# Altium integrated library pca10000.IntLib: 18 symbols
Pins are listed as number, name and electrical type; pins without a type are passive.

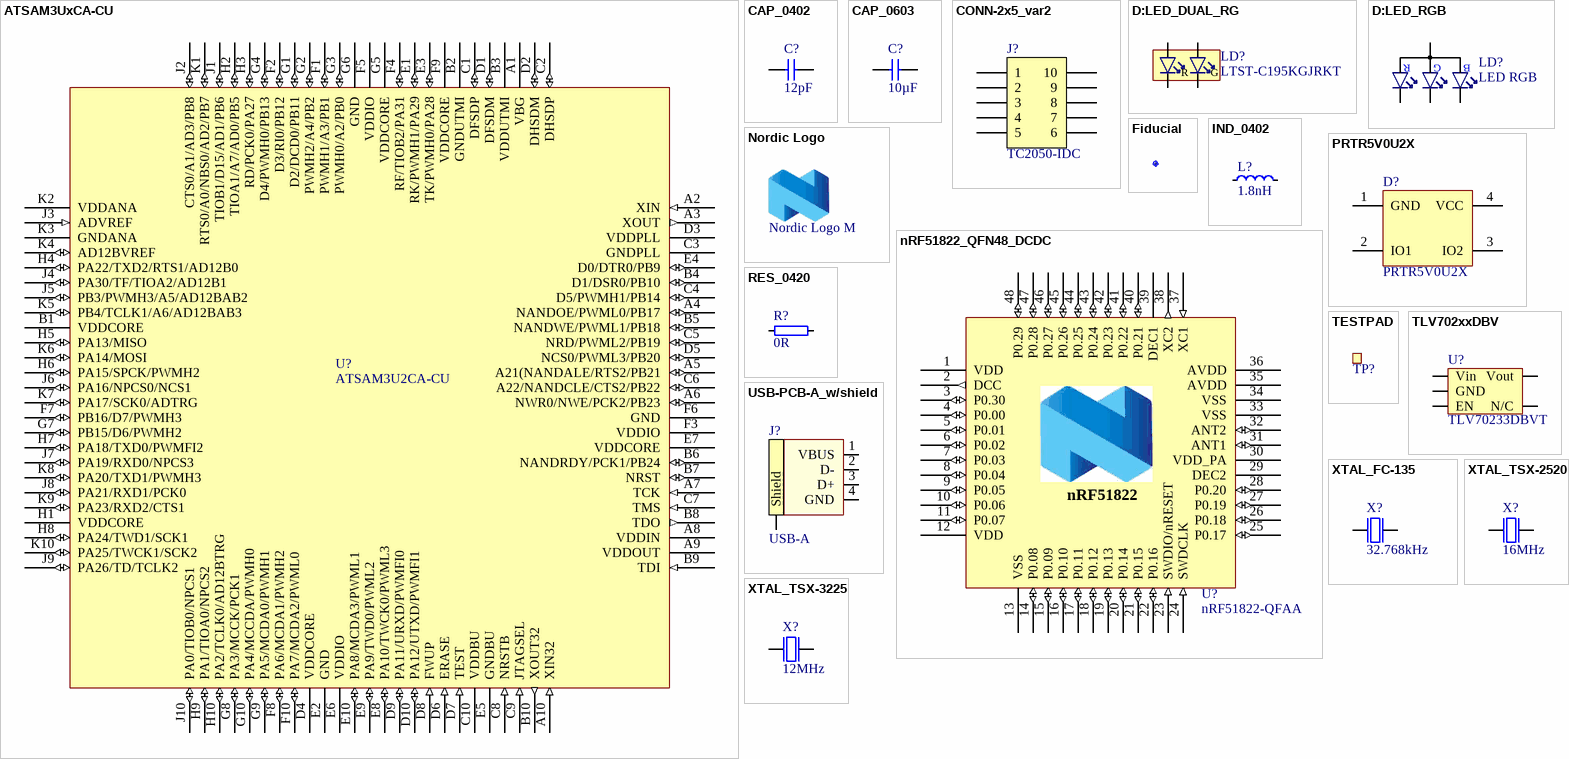
[diagram p0: symbols ATSAM3UxCA-CU to XTAL_TSX-3225]

## ATSAM3UxCA-CU
designator U?, comment ATSAM3U2CA-CU
IC MCU 32bit 128kB flash 100TFBGA; Manufacturer: Atmel; 2nd source part number: 556-ATSAM3U2CA-CU; Artikkelnr Noca: 15019072; Part Number: ATSAM3U2CA-CU; Manufacturer Part Number: ATSAM3U2CA-CU; Datasheet: http://www.atmel.com/Images/6430s.pdf; Footprint: TFBGA100; LatestRevisionDate: 2012-06-01; Pin Count: 100; Publisher: Nordic Semiconductor; Published: 2012-06-01; Value: ATSAM3U2CA-CU; Note: *; Supplier: Digi-Key; Supplier part number: ATSAM3U2CA-CU-ND; 2nd source Supplier: Mouser
footprint BGA100C80P10X10_900X900X110
pins: A1 VBG (power), A2 XIN (in), A3 XOUT (out), A4 NANDOE/PWML0/PB17 (io), A5 A21(NANDALE/RTS2/PB21 (io), A6 NWR0/NWE/PCK2/PB23 (io), A7 TCK (in), A8 VDDIN (power), A9 VDDOUT (power), A10 XIN32 (in), B1 VDDCORE (power), B2 GNDUTMI (power), B3 VDDUTMI (power), B4 D1/DSR0/PB10 (io), B5 NANDWE/PWML1/PB18 (io), B6 NANDRDY/PCK1/PB24 (io), B7 NRST (io), B8 TDO (out), B9 TDI (in), B10 XOUT32 (out), C1 DFSDP (io), C2 DHSDP (io), C3 GNDPLL (power), C4 D5/PWMH1/PB14 (io), C5 NRD/PWML2/PB19 (io), C6 A22/NANDCLE/CTS2/PB22 (io), C7 TMS (in), C8 NRSTB (in), C9 JTAGSEL (in), C10 VDDBU (power), D1 DFSDM (io), D2 DHSDM (io), D3 VDDPLL (power), D4 VDDCORE (power), D5 NCS0/PWML3/PB20 (io), D6 ERASE (in), D7 TEST (in), D8 FWUP (in), D9 PA11/URXD/PWMFI0 (io), D10 PA12/UTXD/PWMFI1 (io), E1 RK/PWMH1/PA29 (io), E2 GND (power), E3 TK/PWMH0/PA28 (io), E4 D0/DTR0/PB9 (io), E5 GNDBU (power), E6 VDDIO (power), E7 VDDCORE (power), E8 PA10/TWCK0/PWML3 (io), E9 PA9/TWD0/PWML2 (io), E10 PA8/MCDA3/PWML1 (io), F1 PWMH1/A3/PB1 (io), F2 D3/RI0/PB12 (io), F3 VDDIO (power), F4 RF/TIOB2/PA31 (io), F5 VDDIO (power), F6 GND (power), F7 PB16/D7/PWMH3 (io), F8 PA6/MCDA1/PWMH2 (io), F9 VDDCORE (power), F10 PA7/MCDA2/PWML0 (io), G1 D2/DCD0/PB11 (io), G2 PWMH2/A4/PB2 (io), G3 PWMH0/A2/PB0 (io), G4 D4/PWMH0/PB13 (io), G5 VDDCORE (power), G6 GND (power), G7 PB15/D6/PWMH2 (io), G8 PA3/MCCK/PCK1 (io), G9 PA5/MCDA0/PWMH1 (io), G10 PA4/MCCDA/PWMH0 (io), H1 VDDCORE (power), H2 TIOA1/A7/AD0/PB5 (io), H3 RD/PCK0/PA27 (io), H4 PA22/TXD2/RTS1/AD12B0 (io), H5 PA13/MISO (io), H6 PA15/SPCK/PWMH2 (io), H7 PA18/TXD0/PWMFI2 (io), H8 PA24/TWD1/SCK1 (io), H9 PA1/TIOA0/NPCS2 (io), H10 PA2/TCLK0/AD12BTRG (io), J1 TIOB1/D15/AD1/PB6 (io), J2 CTS0/A1/AD3/PB8 (io), J3 ADVREF (in), J4 PA30/TF/TIOA2/AD12B1 (io), J5 PB3/PWMH3/A5/AD12BAB2 (io), J6 PA16/NPCS0/NCS1 (io), J7 PA19/RXD0/NPCS3 (io), J8 PA21/RXD1/PCK0 (io), J9 PA26/TD/TCLK2 (io), J10 PA0/TIOB0/NPCS1 (io), K1 RTS0/A0/NBS0/AD2/PB7 (io), K2 VDDANA (power), K3 GNDANA (power), K4 AD12BVREF (io), K5 PB4/TCLK1/A6/AD12BAB3 (io), K6 PA14/MOSI (io), K7 PA17/SCK0/ADTRG (io), K8 PA20/TXD1/PWMH3 (io), K9 PA23/RXD2/CTS1 (io), K10 PA25/TWCK1/SCK2 (io)

## CAP_0402
designator C?, comment 12pF
Capacitor, NP0, ±2%; Part Number: C0402-12p; Note: 50V; Artikkelnr Noca: 20029159; Manufacturer: *; Manufacturer Part Number: *; Datasheet: *; Footprint: 0402; LatestRevisionDate: 2011-05-11; Pin Count: 2; Publisher: Nordic Semiconductor; Published: 2009-05-08; Value: 12pF; Supplier: *; Supplier part number: *; 2nd source Supplier: *; 2nd source part number: *
footprint CAPC1005X04L
pins: 1, 2

## CAP_0603
designator C?, comment 10µF
Capacitor, X5R, ±10%; Part Number: C0603-10µ; Note: 6.3V; Artikkelnr Noca: 20039252; Manufacturer: *; Manufacturer Part Number: *; Datasheet: *; Footprint: 0603; LatestRevisionDate: 2011-01-17; Pin Count: 2; Publisher: Nordic Semiconductor; Published: 2011-01-17; Value: 10µF; Supplier: *; Supplier part number: *; 2nd source Supplier: *; 2nd source part number: *
footprint CAPC1608X06L
pins: 1, 2

## CONN-2x5_var2
designator J?, comment TC2050-IDC  (no BOM)
CBL PLUG-OF-NAILS 10-PIN; Part Number: TC2050-IDC-NLFP; Manufacturer: Tag-Connect LLC; Artikkelnr Noca: N.A.; Manufacturer Part Number: TC2050-IDC-NLFP; Datasheet: http://www.tag-connect.com/Materials/TC2050-IDC%20Datasheet.pdf; Footprint: TC2050-IDC-NLFP; LatestRevisionDate: 2012-11-21; Publisher: Nordic Semiconductor; Published: 2012-11-21; Value: TC2050-IDC; Supplier: Digi-Key; Supplier part number: TC2050-IDC-NL-ND; 2nd source Supplier: *; 2nd source part number: *
footprint TC2050-IDC-NLFP
pins: 1, 2, 3, 4, 5, 6, 7, 8, 9, 10

## D:LED_DUAL_RG
designator LD?, comment LTST-C195KGJRKT
Avago, HSMF-A203 Bi-Color LED; Manufacturer: Lite-On Inc; 2nd source part number: 859-LTST-C195KGJRKT; Note: HSMF-A203- xxxxx GaP Red GaP Emerald Green; Artikkelnr Noca: 13019145; Part Number: LTST-C195KGJRKT; Manufacturer Part Number: LTST-C195KGJRKT; Datasheet: http://media.digikey.com/pdf/Data%20Sheets/Lite-On%20PDFs/LTST-C195KGJRKT.pdf; Footprint: LED_DUAL_0606; LatestRevisionDate: 2012-07-05; Pin Count: 4; Publisher: Nordic Semiconductor; Published: 2012-07-05; Value: LTST-C195KGJRKT; Supplier: Digi-Key; Supplier part number: 160-1452-1-ND; 2nd source Supplier: Mouser
footprint LED_DUAL_0606
pins: 1 A2, 2 A1, 3 C2, 4 C1
text: R; G

## D:LED_RGB
designator LD?, comment LED RGB
RGB LED 1.00 mm x 1.00 mm SMD; Part Number: SML-LX0404SIUPGUSB; Manufacturer: Lumex; 2nd source part number: 211-8843; Artikkelnr Noca: N.A.; Manufacturer Part Number: SML-LX0404SIUPGUSB; Datasheet: http://media.digikey.com/pdf/Data%20Sheets/Lumex%20PDFs/SML-LX0404SIUPGUSB.pdf; Footprint: SML-LX0404SIUPGUSB; LatestRevisionDate: 2012-10-08; Pin Count: 4; Publisher: Nordic Semiconductor; Published: 2012-10-08; Value: LED RGB; Note: *; Supplier: Digi-Key; Supplier part number: 67-2125-1-ND; 2nd source Supplier: Farnell
footprint SML-LX0404SIUPGUSB
pins: 1 C_RED, 2 C_GREEN, 3 C_BLUE, 4 A
text: R; G; B

## Fiducial
designator Fid?, comment Fiducial mark  (value not drawn)
Part Number: Fid-Mark; Artikkelnr Noca: N.A.; Manufacturer: *; Manufacturer Part Number: *; Datasheet: *; Footprint: Fiducial; LatestRevisionDate: 2009-12-12; Pin Count: 1; Publisher: Nordic Semiconductor; Published: 2009-12-12; Value: *; Note: *; Supplier: *; Supplier part number: *; 2nd source Supplier: *; 2nd source part number: *
footprint Fiducial

## IND_0402
designator L?, comment 1.8nH
Inductor, 280mA, ±0.1nH; Part Number: L0402-1n8; Manufacturer: Murata; Manufacturer Part Number: LQP15MN1N8B02D; Note: High frequency chip inductor ±5%; Artikkelnr Noca: 33029171; Datasheet: http://search.murata.co.jp/Ceramy/image/img/PDF/ENG/L0075S0084LQP15M.pdf; Footprint: 0402; LatestRevisionDate: 2012-09-19; Pin Count: 2; Publisher: Nordic Semiconductor; Published: 2009-05-08; Value: 1.8nH; Supplier: Digi-Key; Supplier part number: 490-1127-1-ND; 2nd source Supplier: *; 2nd source part number: *
footprint INDC1005X04L
pins: 1, 2

## Nordic Logo
designator LOGO?, comment Nordic Logo M  (no BOM)
Nordic Logo, medium size; Artikkelnr Noca: N.A.; Part Number: Nordic Logo M; Manufacturer: *; Manufacturer Part Number: *; Datasheet: *; Footprint: NORDIC_LOGO_M; LatestRevisionDate: 2010-02-18; Publisher: Nordic Semiconductor; Value: Nordic Logo M; Note: *; Supplier: *; Supplier part number: *; 2nd source Supplier: *; 2nd source part number: *; Pin Count: 2; Published: 2010-02-18
footprint NORDIC_LOGO_M

## nRF51822_QFN48_DCDC
designator U?, comment nRF51822-QFAA
Multi-protocol Bluetooth Low Energy and 2.4GHz proprietary system-on-chip; Part Number: nRF51822-Q48-6x6_DCDC; Manufacturer: Nordic Semiconductor; Note: nRF51822 - QFN48 6x6 0.4mm pitch; Artikkelnr Noca: 15079200; Manufacturer Part Number: nRF51822-QFAA; Datasheet: *; Footprint: QFN-48; LatestRevisionDate: 2012-07-10; Pin Count: 48; Publisher: Nordic Semiconductor; Published: 2012-07-08; Value: nRF51822-QFAA; Supplier: Nordic Semiconductor; Supplier part number: *; 2nd source Supplier: *; 2nd source part number: *
footprint QFN40P600X600X90-48N
pins: 1 VDD (power), 2 DCC (out), 3 P0.30 (io), 4 P0.00 (io), 5 P0.01 (io), 6 P0.02 (io), 7 P0.03 (io), 8 P0.04 (io), 9 P0.05 (io), 10 P0.06 (io), 11 P0.07 (io), 12 VDD (power), 13 VSS (power), 14 P0.08 (io), 15 P0.09 (io), 16 P0.10 (io), 17 P0.11 (io), 18 P0.12 (io), 19 P0.13 (io), 20 P0.14 (io), 21 P0.15 (io), 22 P0.16 (io), 23 SWDIO/nRESET (in), 24 SWDCLK (in), 25 P0.17 (io), 26 P0.18 (io), 27 P0.19 (io), 28 P0.20 (io), 29 DEC2 (power), 30 VDD_PA (power), 31 ANT1 (io), 32 ANT2 (io), 33 VSS (power), 34 VSS (power), 35 AVDD (power), 36 AVDD (power), 37 XC1 (in), 38 XC2 (out), 39 DEC1 (power), 40 P0.21 (io), 41 P0.22 (io), 42 P0.23 (io), 43 P0.24 (io), 44 P0.25 (io), 45 P0.26 (io), 46 P0.27 (io), 47 P0.28 (io), 48 P0.29 (io), 49 (power) hidden to GND
text: nRF51822

## PRTR5V0U2X
designator D?
Ultra low capacitance double rail-to-rail ESD protection diode; Manufacturer: NXP; 2nd source part number: 152-4157; Artikkelnr Noca: 10069015; Part Number: PRTR5V0U2X; Manufacturer Part Number: PRTR5V0U2X; Datasheet: http://www.farnell.com/datasheets/109718.pdf; Footprint: SOT-143B; LatestRevisionDate: 2012-06-11; Publisher: Nordic Semiconductor; Published: 2012-06-11; Value: PRTR5V0U2X; Note: *; Supplier: Digi-Key; Supplier part number: 568-4140-1-ND; 2nd source Supplier: Farnell
footprint SOT190P230X110-4L
pins: 1 GND, 2 IO1, 3 IO2, 4 VCC

## RES_0420
designator R?, comment 0R
Resistor, ±5%, 0.063W; Part Number: R0402-0R; Note: Chip Res 5%; Artikkelnr Noca: 27049000; Manufacturer: *; Manufacturer Part Number: *; Datasheet: *; Footprint: 0402; LatestRevisionDate: 2009-11-23; Pin Count: 2; Publisher: Nordic Semiconductor; Published: 2009-05-08; Value: 0R; Supplier: Farnell; Supplier part number: 146-9661; 2nd source Supplier: *; 2nd source part number: *
footprint RESC1005X04L
pins: 1, 2

## TESTPAD
designator TP?, comment 1.0mm,SMD  (value not drawn)  (no BOM)
Regular Plated, 1.0mm hole; Part Number: TP_SMD_1.0MM; Manufacturer: Nordic Semiconductor; Artikkelnr Noca: N.A.; Manufacturer Part Number: *; Datasheet: *; Footprint: TP_SMD_1.0mmX1.0mm; LatestRevisionDate: 2009-12-12; Pin Count: 1; Publisher: Nordic Semiconductor; Published: 2009-12-12; Value: 1.0mm,SMD; Note: Regular Plated, 1.0mm hole; Supplier: *; Supplier part number: *; 2nd source Supplier: *; 2nd source part number: *
footprint TP_SMD_1.0mmX1.0mm
pins: 1

## TLV702xxDBV
designator U?, comment TLV70233DBVT
IC REG LDO 3.3V 300MA SOT23-5; Manufacturer: Texas Instruments; Note: 300-mA, Low-IQ, Low-Dropout Regulator; Artikkelnr Noca: 17039215; Part Number: TLV70233DBVT; Manufacturer Part Number: TLV70233DBVT; Datasheet: http://www.ti.com/lit/ds/symlink/tlv70218.pdf; Footprint: SOT-23-5; LatestRevisionDate: 2012-07-06; Pin Count: 5; Publisher: Nordic Semiconductor; Published: 2012-07-06; Value: TLV70233DBVT; Supplier: Digi-Key; Supplier part number: 296-27895-1-ND; 2nd source Supplier: *; 2nd source part number: *
footprint SOT-23-5
pins: 1 Vin, 2 GND, 3 EN, 4 N/C, 5 Vout

## USB-PCB-A_w/shield
designator J?, comment USB-A
Molex USB-A-SMT; Part Number: Molex USB-A-SMT_w/shield; Manufacturer Part Number: 48037-1000; 2nd source part number: 538-48037-1000; Note: MOLEX - 48037-1000; Artikkelnr Noca: 55079008; Value: USB-A; Manufacturer: Molex; Datasheet: http://www.molex.com/pdm_docs/sd/480371000_sd.pdf; Footprint: USB-PCB-A-SMD; LatestRevisionDate: 2012-11-21; Publisher: Nordic Semiconductor; Published: 2012-11-21; Supplier: Digi-Key; Supplier part number: WM17118-ND; 2nd source Supplier: Mouser
footprint USB-PCB-A-SMD
pins: 0 Shield (power), 1 VBUS, 2 D-, 3 D+, 4 GND

## XTAL_FC-135
designator X?, comment 32.768kHz
EPSON TOYOCOM - FC-135 32.768KHZ ±20PPM,9.0PF - CRYSTAL, SM, WATCH; Part Number: XTAL_FC-135 32.768k; 2nd source part number: 127-8037; Note: XTAL SMD 32.768kHz, 3215; Artikkelnr Noca: 22019091; Manufacturer: Epson Toyocom; Manufacturer Part Number: FC-135 32.768KHZ ±20PPM,9.0PF; Datasheet: http://www.farnell.com/datasheets/57480.pdf; Footprint: FC-135; LatestRevisionDate: 2010-10-18; Pin Count: 2; Publisher: Nordic Semiconductor; Published: 2010-10-18; Value: 32.768kHz; Supplier: Digi-Key; Supplier part number: FC-135 32.7680KA-AC-ND; 2nd source Supplier: Farnell
footprint FC-135
pins: 1 inp, 2 out

## XTAL_TSX-2520
designator X?, comment 16MHz
XTAL SMD 2520, 16MHz, 8pF, ±15ppm; Part Number: NX2520SA-16MHZ-STD-CSW-5; Manufacturer: NDK; Note: XTAL SMD 16.000MHz; Artikkelnr Noca: 22019192; Manufacturer Part Number: NX2520SA-16MHZ-STD-CSW-5; Datasheet: http://www.ndk.com/images/products/catalog/c_NX2520SA-STD-CSW-5_e.pdf; Footprint: BT-XTAL_2520; LatestRevisionDate: 2012-06-15; Pin Count: 4; Publisher: Nordic Semiconductor; Published: 2012-06-15; Value: 16MHz; Supplier: Digi-Key; Supplier part number: 644-1169-1-ND; 2nd source Supplier: *; 2nd source part number: *
footprint BT-XTAL_2520
pins: 1 inp, 2 GND hidden to GND, 3 out, 4 GND hidden to GND

## XTAL_TSX-3225
designator X?, comment 12MHz
XTAL SMD 3225, 12MHz, 18pF, ±30ppm; Part Number: XTAL SMD 12MHz (3225); Manufacturer: TXC Corporation; Manufacturer Part Number: 7M-12.000MAAJ-T; 2nd source part number: 184-2056; Note: XTAL SMD 12.000MHz; Artikkelnr Noca: 22019166; Datasheet: http://www.txccrystal.com/images/pdf/7m.pdf; Footprint: BT-XTAL_3225; LatestRevisionDate: 2010-08-31; Pin Count: 4; Publisher: Nordic Semiconductor; Published: 2010-08-31; Value: 12MHz; Supplier: Digi-Key; Supplier part number: 887-1121-1-ND; 2nd source Supplier: Farnell
footprint BT-XTAL_3225
pins: 1 inp, 2 GND hidden to GND, 3 out, 4 GND hidden to GND